# EAGLE library part AVRISPPROG (library ispvpro)
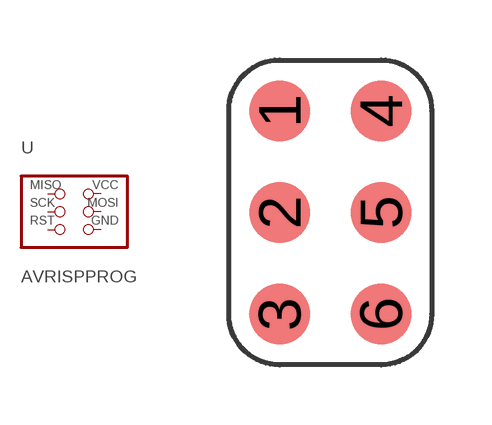
[diagram p0: symbol with the pads of SMD; footprint SMD]

Designator prefix -

## AVRISPPROG  [SMD]
1  MISO  pas
2  SCK  pas
3  RST  pas
4  VCC  pas
5  MOSI  pas
6  GND  pas

## Footprint SMD (pad centres in mm)
smd 1.524 x 1.524: 1 -1.27,2.54; 2 -1.27,0; 3 -1.27,-2.54; 4 1.27,2.54; 5 1.27,0; 6 1.27,-2.54